# EAGLE library part TERMINUS_X910CF (library Janus-IC)
Terminus x910CF Plug in Module Footprint/Schematic for: HSPA910CF EVDO910CF CDMA910CF LTE910CF
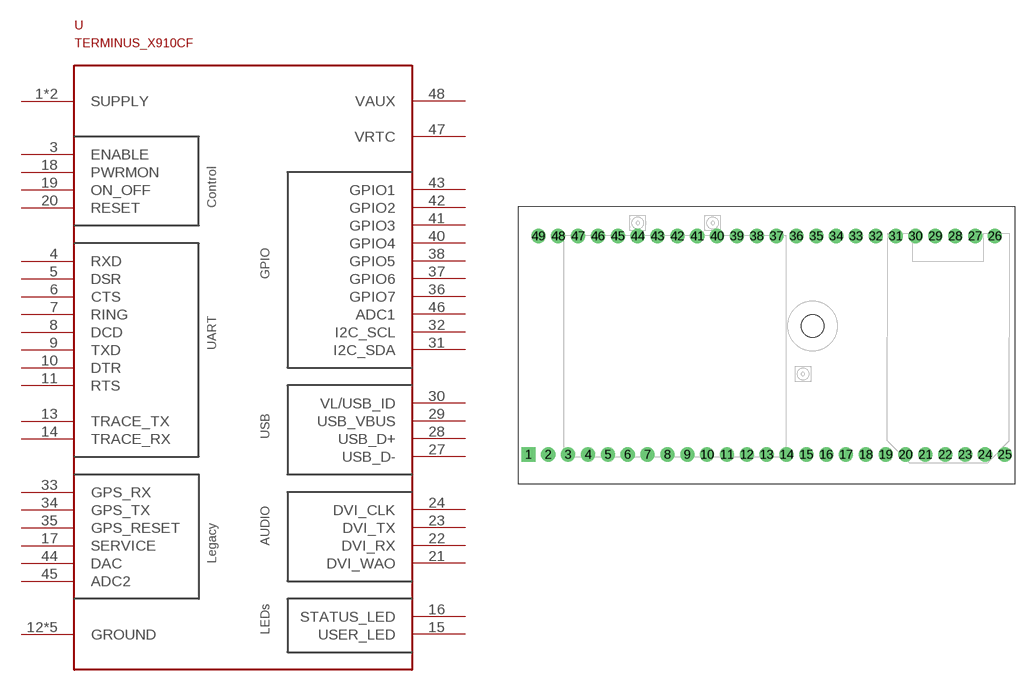
[diagram p2: symbol with the pads of X910CF; footprint X910CF]

Designator prefix U

## TERMINUS_X910CF  [X910CF]
1  SUPPLY
2  SUPPLY
3  ENABLE
4  RXD
5  DSR
6  CTS
7  RING
8  DCD
9  TXD
10  DTR
11  RTS
12  GROUND
13  TRACE_TX
14  TRACE_RX
15  USER_LED
16  STATUS_LED
17  SERVICE
18  PWRMON
19  ON_OFF
20  RESET
21  DVI_WAO
22  DVI_RX
23  DVI_TX
24  DVI_CLK
25  GROUND
26  GROUND
27  USB_D-
28  USB_D+
29  USB_VBUS
30  VL/USB_ID
31  I2C_SDA
32  I2C_SCL
33  GPS_RX
34  GPS_TX
35  GPS_RESET
36  GPIO7
37  GPIO6
38  GPIO5
39  GROUND
40  GPIO4
41  GPIO3
42  GPIO2
43  GPIO1
44  DAC
45  ADC2
46  ADC1
47  VRTC
48  VAUX
49  GROUND

## Footprint X910CF (pad centres in mm)
drill 1.2 square: 1 0,0
drill 1.2: 2 2.54,0; 3 5.08,0; 4 7.62,0; 5 10.16,0; 6 12.7,0; 7 15.24,0; 8 17.78,0; 9 20.32,0; 10 22.86,0; 11 25.4,0; 12 27.94,0; 13 30.48,0; 14 33.02,0; 15 35.56,0; 16 38.1,0; 17 40.64,0; 18 43.18,0; 19 45.72,0; 20 48.26,0; 21 50.8,0; 22 53.34,0; 23 55.88,0; 24 58.42,0; 25 60.96,0; 26 59.69,27.94; 27 57.15,27.94; 28 54.61,27.94; 29 52.07,27.94; 30 49.53,27.94; 31 46.99,27.94; 32 44.45,27.94; 33 41.91,27.94; 34 39.37,27.94; 35 36.83,27.94; 36 34.29,27.94; 37 31.75,27.94; 38 29.21,27.94; 39 26.67,27.94; 40 24.13,27.94; 41 21.59,27.94; 42 19.05,27.94; 43 16.51,27.94; 44 13.97,27.94; 45 11.43,27.94; 46 8.89,27.94; 47 6.35,27.94; 48 3.81,27.94; 49 1.27,27.94
hole 2.87 at 36.347,16.434